# EAGLE library part MPR121QR2 (library Sensor)
IC CTLR TOUCH SENSOR 20-QFN Manufacturer's datasheet <https://www.nxp.com/docs/en/data-sheet/MPR121.pdf>
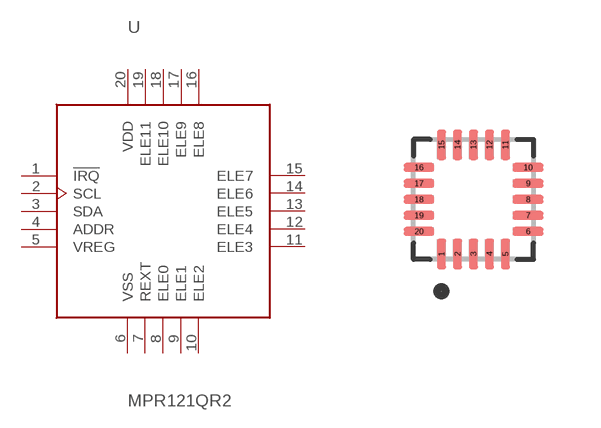
[diagram p16: symbol with the pads of UFQFN-20; footprint UFQFN-20]

Designator prefix U

## MPR121QR2 (CREATED_BY: PCBLayout.com; DIGI_KEY_PART_NUMBER: MPR121QR2TR-ND; MANUFACTURER: NXP USA Inc.; MPN: MPR121QR2; PACKAGE: 20-UFQFN)  [UFQFN-20]
1  !IRQ  out
2  SCL
3  SDA  pas
4  ADDR  in
5  VREG  pas
6  VSS  pwr
7  REXT  pas
8  ELE0  pas
9  ELE1  pas
10  ELE2  pas
11  ELE3  pas
12  ELE4  pas
13  ELE5  pas
14  ELE6  pas
15  ELE7  pas
16  ELE8  pas
17  ELE9  pas
18  ELE10  pas
19  ELE11  pas
20  VDD  pwr

## Footprint UFQFN-20 (pad centres in mm)
Quad Flat No-Lead (QFN), 0.40 mm pitch; square, 5 pin X 5 pin, 3.00 mm L X 3.00 mm W X 0.60 mm H body PCB Libraries Packages
smd 0.22 x 0.76: 1 -0.8,-1.365; 2 -0.4,-1.365; 3 0,-1.365; 4 0.4,-1.365; 5 0.8,-1.365; 11 0.8,1.365; 12 0.4,1.365; 13 0,1.365; 14 -0.4,1.365; 15 -0.8,1.365
smd 0.76 x 0.22: 6 1.365,-0.8; 7 1.365,-0.4; 8 1.365,0; 9 1.365,0.4; 10 1.365,0.8; 16 -1.365,0.8; 17 -1.365,0.4; 18 -1.365,0; 19 -1.365,-0.4; 20 -1.365,-0.8